# EAGLE library part TRAFO-UE5 (library 1A-meinLib)
Universaltransformator, UE5, 2x 10V,12V,15V /5A, M102, Bürklin, 35C140
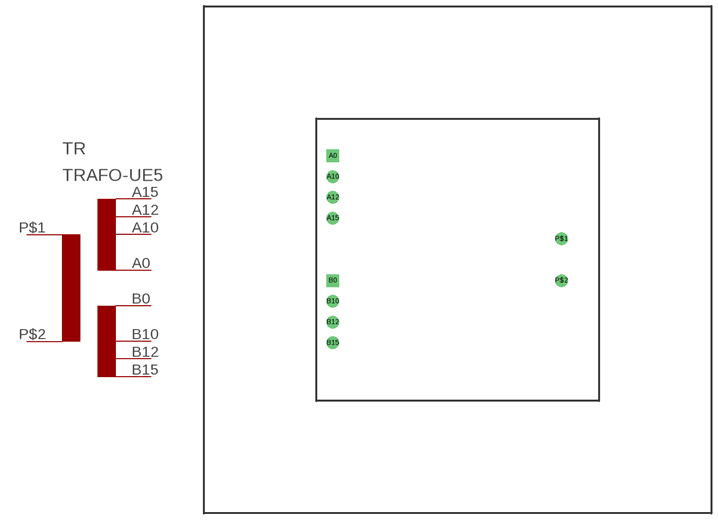
[diagram p94: symbol with the pads of TRAFO-M102-UE5; footprint TRAFO-M102-UE5]

Designator prefix TR

## TRAFO-UE5  [TRAFO-M102-UE5]
A0  SA0
A10  SA10
A12  SA12
A15  SA15
B0  SB0
B10  SB10
B12  SB12
B15  SB15
P$1  P1
P$2  P2

## Footprint TRAFO-M102-UE5 (pad centres in mm)
drill 2 square: A0 -30,25; B0 -30,-5
drill 2 round: A10 -30,20; A12 -30,15; A15 -30,10; B10 -30,-10; B12 -30,-15; B15 -30,-20; P$1 25,5; P$2 25,-5